# Altium schematic symbol library AFS14A04-1575.42-T3.SchLib: 1 symbol
Pins are listed as number, name and electrical type; pins without a type are passive.

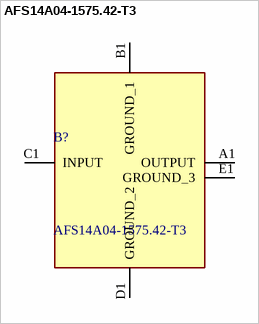
[diagram p0: symbol AFS14A04-1575.42-T3]

## AFS14A04-1575.42-T3
designator B?
Signal Conditioning 1575.42MHz BW=40MHz 5-Pad; Manufacturer_Name: ABRACON; Geometry.Height: 0.7mm; Mouser Part Number: 815-AFS14A04-1575-T3; Mouser Price/Stock: https://www.mouser.co.uk/ProductDetail/ABRACON/AFS14A04-1575.42-T3?qs=tfZGHB2PWd3aRd4qy%2Fp2mg%3D%3D; Manufacturer_Part_Number: AFS14A04-1575.42-T3; Datasheet Link: https://datasheet.datasheetarchive.com/originals/dk/DKDS-11/202926.pdf
footprint AFS14A04157542T3
pins: A1 OUTPUT, B1 GROUND_1, C1 INPUT, D1 GROUND_2, E1 GROUND_3